# Altium schematic symbol library 1206Capacitor.SchLib: 2 symbols
Pins are listed as number, name and electrical type; pins without a type are passive.

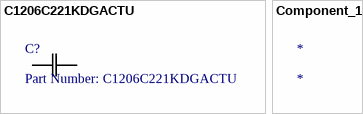
[diagram p0: symbols C1206C221KDGACTU to Component_1]

## C1206C221KDGACTU
designator C?, comment Part Number: C1206C221KDGACTU
No Description Available; Vendor: Kemet; Built_By: EMA_UL_Team; Type: DEV; Manufacturer_Part_Number: C1206C221KDGACTU; Copyright: Copyright (C) 2018 Accelerated Designs. All rights reserved; RefDes: RefDes; Value: Value
footprint C1206C
pins: 1, 2

## Component_1
designator *